# EAGLE library part FLASH-SPI-SO8 (library xess)
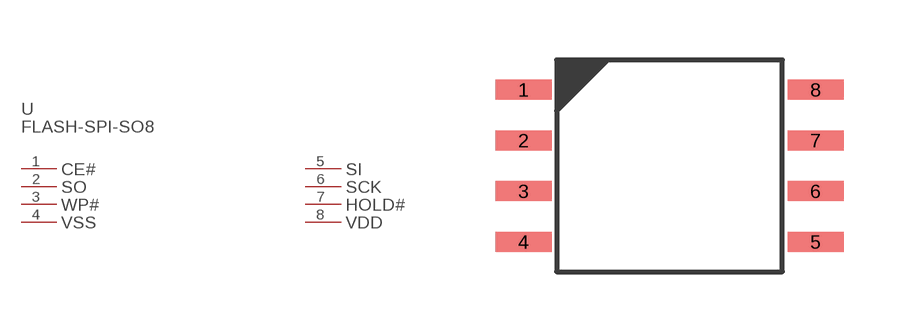
[diagram p89: symbol with the pads of FLASH-SPI-SO8; footprint FLASH-SPI-SO8]

Designator prefix U; gates PART_VALUE=PART_VALUE-FLASH-SPI-SO8 CE#=PL-FLASH-SPI-SO8 SO=PL-FLASH-SPI-SO8 WP#=PL-FLASH-SPI-SO8 VSS=PL-FLASH-SPI-SO8 SI=PL-FLASH-SPI-SO8 SCK=PL-FLASH-SPI-SO8 HOLD#=PL-FLASH-SPI-SO8 VDD=PL-FLASH-SPI-SO8

## FLASH-SPI-SO8  [FLASH-SPI-SO8]
1  CE#:P$1
2  SO:P$1
3  WP#:P$1
4  VSS:P$1
5  SI:P$1
6  SCK:P$1
7  HOLD#:P$1
8  VDD:P$1

## Footprint FLASH-SPI-SO8 (pad centres in mm)
smd 1.4 x 0.5: 1 -0.1,0; 2 -0.1,-1.27; 3 -0.1,-2.54; 4 -0.1,-3.81; 5 7.2,-3.81; 6 7.2,-2.54; 7 7.2,-1.27; 8 7.2,0